# Altium schematic symbol library DIODE_SCHTKY.SchLib: 1 symbol
Pins are listed as number, name and electrical type; pins without a type are passive.

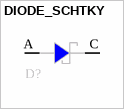
[diagram p0: symbol DIODE_SCHTKY]

## DIODE_SCHTKY
designator D?
DIODE SCH 1A 30V MICROSMP SMT
pins: A, C